# Altium footprint library Cuk_3ph_control1.PcbLib: 32 footprints (part 1 of 2)
Each footprint in its own frame and in the unit in brackets; x right, y up, seen from the top. Pads: shape width x height; smd on the part's side, far side on the other; paste and mask are expansions set on the pad; w line width, h text height; cw(c..) or ccw(c..) is an arc to the next point about the centre after c.
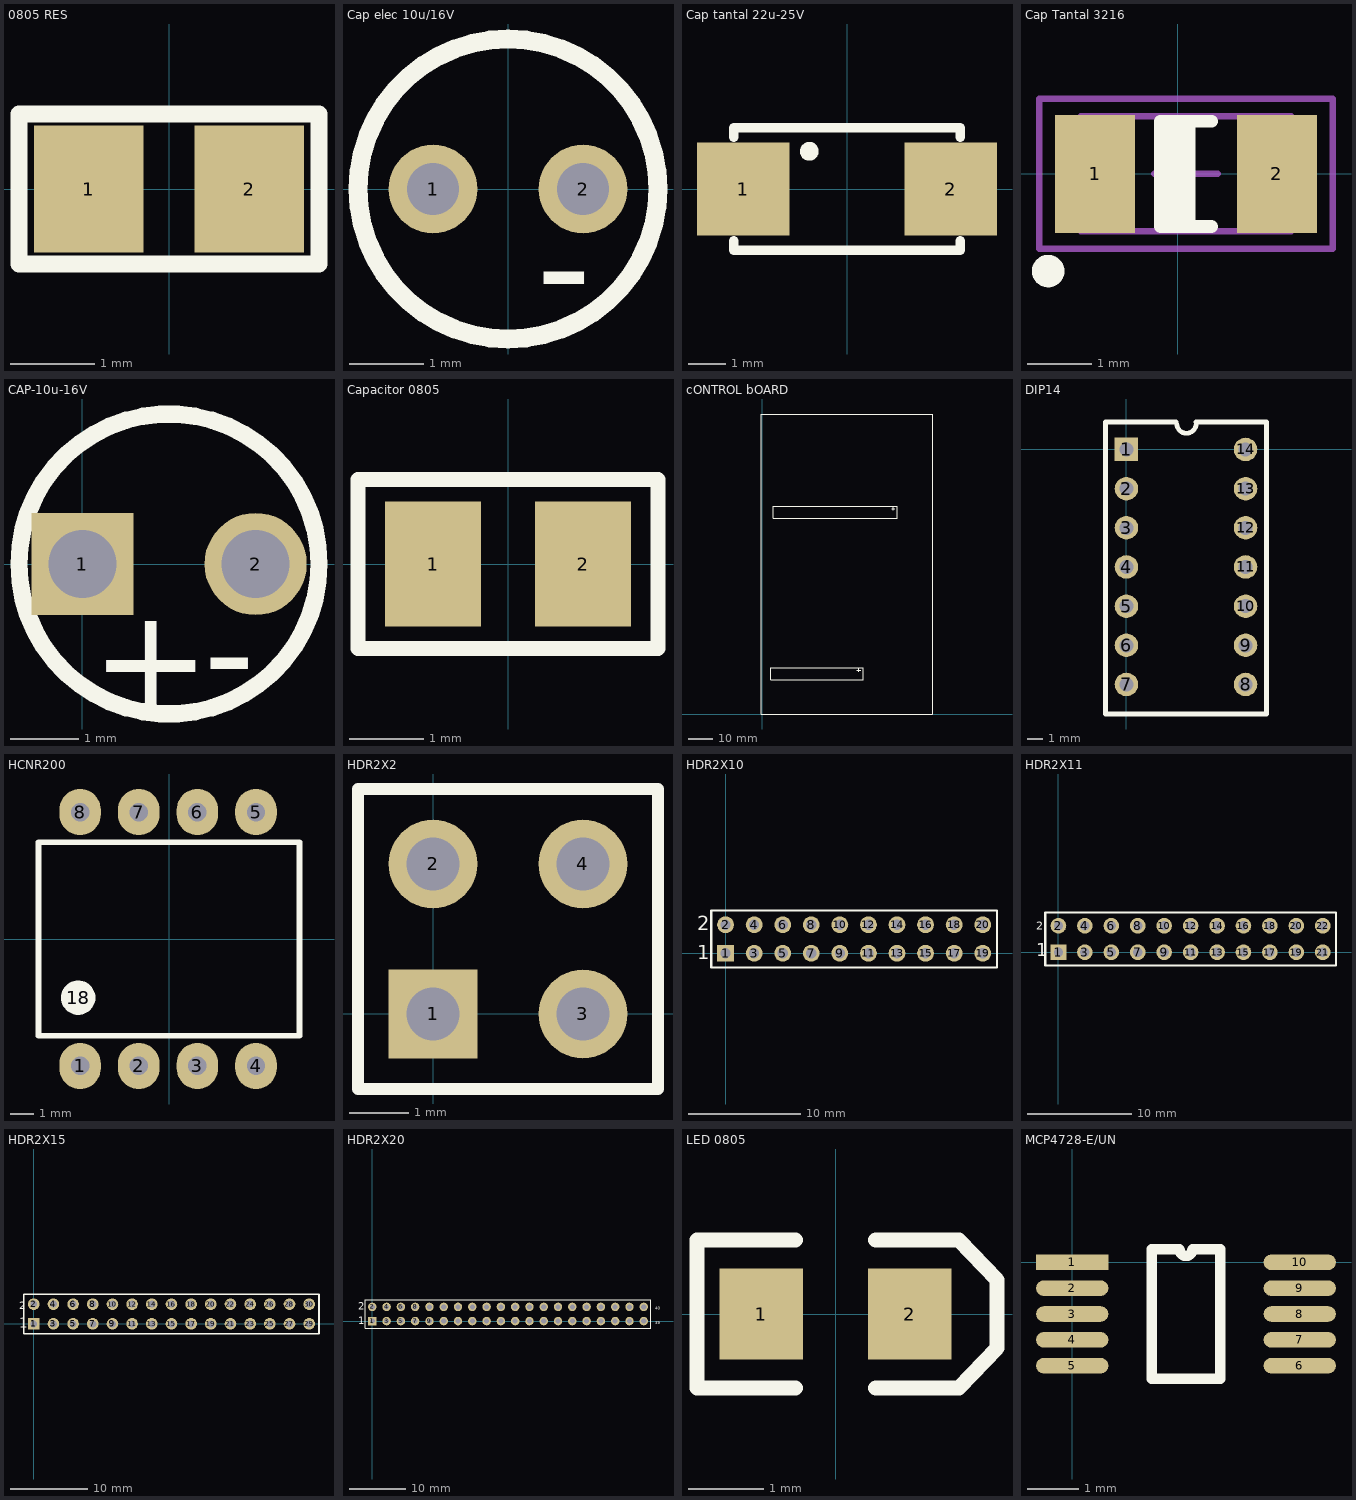
[diagram p0: the footprints below, top view; thin cyan lines are the x and y axes]

## 0805 RES [mm]
pads (2):
  rect 1.3x1.5 smd: 1(-0.95,0) 2(0.95,0)
Top Overlay:
  lines w0.2: -1.778,-0.889 1.778,-0.889 1.778,0.889 -1.778,0.889 -1.778,-0.865

## Cap elec 10u/16V [mm]
height 5.3
pads (2):
  round 1.2 hole 0.7: 1(-1.016,0) 2(1.016,0)
Top Overlay:
  circle w0.254: c0,0 r2.032
  text "-" at 0.381,-1.778 h1.52

## Cap tantal 22u-25V [mm]
height 2.6
pads (2):
  rect 2.5x2.5 smd: 1(-2.794,0) 2(2.794,0)
Top Overlay:
  circle w0.254: c-1.016,1.016 r0.127
  lines w0.254: -3.048,-1.397 -3.048,-1.651 3.048,-1.651 3.048,-1.397 ; -3.048,1.397 -3.048,1.651 3.048,1.651 3.048,1.397

## Cap Tantal 3216 [mm]
pads (2):
  rect 1.25x1.85 smd: 1(-1.298,0) 2(1.552,0)
Top Overlay:
  circle w0.254: c-2.032,-1.524 r0.127
  rectangle: -0.273,-0.834 0.277,0.816
  lines w0.2: 0.527,-0.825 -0.273,-0.825 -0.273,0.825 0.527,0.825
Mechanical 13:
  lines w0.1: -1.523,-0.9 1.777,-0.9 1.777,0.9 -1.523,0.9 -1.523,-0.9
Mechanical 15:
  lines w0.1: -0.373,0 0.627,0 ; 0.127,-0.5 0.127,0.5 ; -2.173,-1.175 2.427,-1.175 2.427,1.175 -2.173,1.175 -2.173,-1.175
3D body: height 1.6, standoff 0, extent -1.523,-0.9 1.777,0.9

## CAP-10u-16V [mm]
pads (2):
  rect 1.5x1.5 hole 1: 1(0,0)
  round 1.5 hole 1: 2(2.54,0)
Top Overlay:
  circle w0.254: c1.27,0 r2.2
  text "-" at 1.778,-2.032 h1.52
  text "+" at 0.127,-2.159 h1.52

## Capacitor 0805 [mm]
pads (2):
  rect 1.3x1.7 smd: 1(-1.016,0) 2(1.016,0)
Top Overlay:
  lines w0.2: -2.032,-1.143 -2.032,0 -2.032,1.143 2.032,1.143 2.032,-1.143 -2.032,-1.143

## cONTROL bOARD [mm]
Top Overlay:
  lines w0.254: 38.735,18.288 40.437,18.288 ; 39.649,17.653 39.649,18.847 ; 53.086,84.633 54.432,84.633 ; 53.848,84.049 53.848,85.217 ; -0.406,0.203 -0.406,123.52 69.926,123.52 69.926,0.229 69.901,0.203 -0.406,0.203 ; 3.327,14.199 3.327,19.279 41.427,19.279 41.427,14.199 3.327,14.199 ; 4.521,80.569 4.521,85.649 55.321,85.649 55.321,80.569 4.521,80.569
3D body: height 20.32, standoff 10, extent -0.178,0.153 69.85,123.419

## DIP14 [mm]
pads (14):
  rect 1.5x1.5 hole 0.9: 1(0,0)
  round 1.5 hole 0.9: 2(0,-2.5) 3(0,-5) 4(0,-7.5) 5(0,-10) 6(0,-12.5) 7(0,-15) 8(7.6,-15) 9(7.6,-12.5) 10(7.6,-10) 11(7.6,-7.5) 12(7.6,-5) 13(7.6,-2.5) 14(7.6,0)
Top Overlay:
  lines w0.3: 3.175,1.758 -1.34,1.758 -1.34,-16.885 8.94,-16.885 8.94,1.758 4.425,1.758 ; 3.215,1.651 ccw(c3.83,1.651) 4.445,1.651

## HCNR200 [mm]
height 5
pads (9):
  oval 1.8x2 hole 0.8: 1(-3.85,-5.5) 2(-1.31,-5.5) 3(1.23,-5.5) 4(3.77,-5.5) 5(3.77,5.5) 6(1.23,5.5) 7(-1.31,5.5) 8(-3.85,5.5)
  round 1.5 on Top Overlay: 18(-3.937,-2.54)
Top Overlay:
  lines w0.254: -5.65,-4.191 -5.65,4.191 5.65,4.191 5.65,-4.191 -5.65,-4.191

## HDR2X2 [mm] "Connector; Header; 2x2 Position"
pads (4):
  rect 1.5x1.5 hole 0.9: 1(0,0)
  round 1.5 hole 0.9: 2(0,2.54) 3(2.54,0) 4(2.54,2.54)
Top Overlay:
  lines w0.2: -1.27,-1.27 3.81,-1.27 3.81,3.81 -1.27,3.81 -1.27,-1.27

## HDR2X10 [mm] "Connector; Header; 10x2 Position"
pads (20):
  rect 1.5x1.5 hole 0.9: 1(0,0)
  round 1.5 hole 0.9: 2(0,2.54) 3(2.54,0) 4(2.54,2.54) 5(5.08,0) 6(5.08,2.54) 7(7.62,0) 8(7.62,2.54) 9(10.16,0) 10(10.16,2.54) 11(12.7,0) 12(12.7,2.54) 13(15.24,0) 14(15.24,2.54) 15(17.78,0) 16(17.78,2.54) 17(20.32,0) 18(20.32,2.54) 19(22.86,0) 20(22.86,2.54)
Top Overlay:
  lines w0.2: -1.27,-1.27 0.635,-1.27 24.13,-1.27 24.13,3.81 0.635,3.81 -1.27,3.81 -1.27,-1.27
  text "1" at -2.54,-0.508 h1.27
  text "2" at -2.54,2.032 h1.27

## HDR2X11 [mm] "Connector; Header; 11x2 Position"
pads (22):
  rect 1.5x1.5 hole 0.9: 1(0,0)
  round 1.5 hole 0.9: 2(0,2.54) 3(2.54,0) 4(2.54,2.54) 5(5.08,0) 6(5.08,2.54) 7(7.62,0) 8(7.62,2.54) 9(10.16,0) 10(10.16,2.54) 11(12.7,0) 12(12.7,2.54) 13(15.24,0) 14(15.24,2.54) 15(17.78,0) 16(17.78,2.54) 17(20.32,0) 18(20.32,2.54) 19(22.86,0) 20(22.86,2.54) 21(25.4,0) 22(25.4,2.54)
Top Overlay:
  lines w0.2: -1.27,-1.27 26.67,-1.27 26.67,3.81 -1.27,3.81 -1.27,-1.27
  text "2" at -2.159,2.159 h0.76
  text "1" at -2.159,-0.381 h1.27

## HDR2X15 [mm] "Connector; Header; 15x2 Position"
pads (30):
  rect 1.5x1.5 hole 0.9: 1(0,0)
  round 1.5 hole 0.9: 2(0,2.54) 3(2.54,0) 4(2.54,2.54) 5(5.08,0) 6(5.08,2.54) 7(7.62,0) 8(7.62,2.54) 9(10.16,0) 10(10.16,2.54) 11(12.7,0) 12(12.7,2.54) 13(15.24,0) 14(15.24,2.54) 15(17.78,0) 16(17.78,2.54) 17(20.32,0) 18(20.32,2.54) 19(22.86,0) 20(22.86,2.54) 21(25.4,0) 22(25.4,2.54) 23(27.94,0) 24(27.94,2.54) 25(30.48,0) 26(30.48,2.54) 27(33.02,0) 28(33.02,2.54) 29(35.56,0) 30(35.56,2.54)
Top Overlay:
  lines w0.2: -1.27,-1.27 36.83,-1.27 36.83,3.81 -1.27,3.81 -1.27,-1.27
  text "1" at -1.905,-0.508 h1.27
  text "2" at -1.905,1.905 h1

## HDR2X20 [mm] "Connector; Header; 20x2 Position"
pads (40):
  rect 1.5x1.5 hole 0.9: 1(0,0)
  round 1.5 hole 0.9: 2(0,2.54) 3(2.54,0) 4(2.54,2.54) 5(5.08,0) 6(5.08,2.54) 7(7.62,0) 8(7.62,2.54) 9(10.16,0) 10(10.16,2.54) 11(12.7,0) 12(12.7,2.54) 13(15.24,0) 14(15.24,2.54) 15(17.78,0) 16(17.78,2.54) 17(20.32,0) 18(20.32,2.54) 19(22.86,0) 20(22.86,2.54) 21(25.4,0) 22(25.4,2.54) 23(27.94,0) 24(27.94,2.54) 25(30.48,0) 26(30.48,2.54) 27(33.02,0) 28(33.02,2.54) 29(35.56,0) 30(35.56,2.54) 31(38.1,0) 32(38.1,2.54) 33(40.64,0) 34(40.64,2.54) 35(43.18,0) 36(43.18,2.54) 37(45.72,0) 38(45.72,2.54) 39(48.26,0) 40(48.26,2.54)
Top Overlay:
  lines w0.2: -1.27,-1.27 49.53,-1.27 49.53,3.81 -1.27,3.81 -1.27,-1.27
  text "1" at -2.54,-0.508 h1.27
  text "2" at -2.54,2.032 h1.27
  text "40" at 50.292,2.032 h0.5
  text "39" at 50.292,-0.508 h0.5

## LED 0805 [mm]
pads (2):
  rect 1.1x1.2 smd: 1(-0.98,0) 2(0.98,0)
Top Overlay:
  lines w0.2: -0.53,-0.975 -1.83,-0.975 -1.83,0.975 -0.53,0.975 ; 0.53,-0.975 1.63,-0.975 2.13,-0.45 2.13,0.45 1.63,0.975 0.53,0.975

## MCP4728-E/UN [mm]
pads (10):
  rect 1.4x0.3 smd: 1(0,0)
  oval 1.4x0.3 smd: 2(0,-0.5) 3(0,-1) 4(0,-1.5) 5(0,-2) 6(4.4,-2) 7(4.4,-1.5) 8(4.4,-1) 9(4.4,-0.5) 10(4.4,0)
Top Overlay:
  lines w0.2: 1.535,-2.25 2.865,-2.25 2.865,0.25 2.325,0.25 cw(c2.2,0.25) 2.075,0.25 1.535,0.25 1.535,-2.25